# Altium footprint library diodes.PcbLib: 33 footprints (part 3 of 3)
Each footprint in its own frame and in the unit in brackets; x right, y up, seen from the top. Pads: shape width x height; smd on the part's side, far side on the other; paste and mask are expansions set on the pad; w line width, h text height; cw(c..) or ccw(c..) is an arc to the next point about the centre after c.
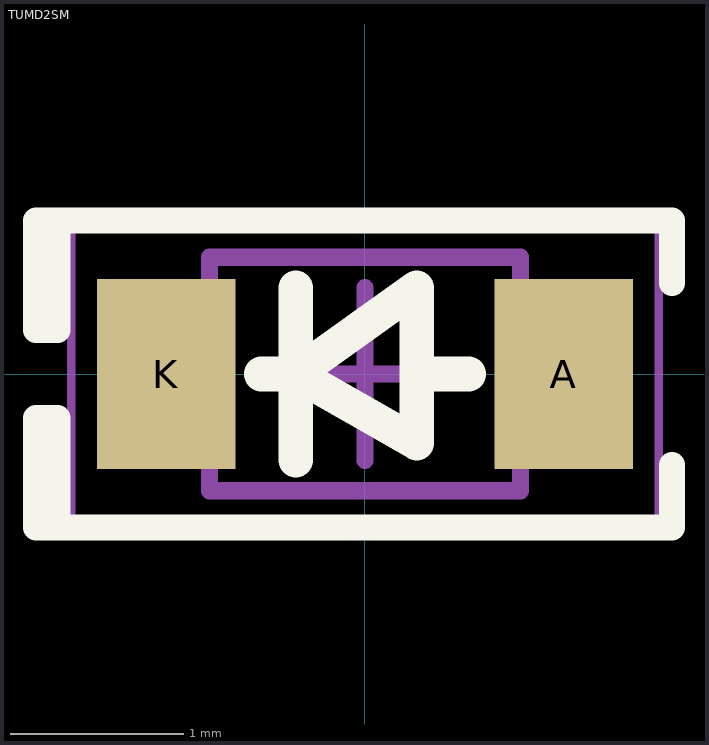
[diagram p2: the footprint, top view; thin cyan lines are the x and y axes]

## TUMD2SM [mm]
pads (2):
  rect 0.8x1.1 smd: A(1.15,0) K(-1.15,0)
Top Overlay:
  lines w0.15: -1.778,-0.889 -1.778,-0.254 -1.905,-0.254 -1.905,-0.889 1.778,-0.889 1.778,-0.525 ; -1.778,0.889 -1.778,0.254 -1.905,0.254 -1.905,0.889 1.778,0.889 1.778,0.525
  lines w0.2: -0.6,0 -0.4,0 ; -0.4,-0.5 -0.4,0.5 ; 0.3,0 0.6,0 ; -0.4,0 0.3,-0.4 0.3,0.5 -0.4,0
Mechanical 13:
  lines w0.1: -0.9,-0.675 -0.9,0.675 0.9,0.675 0.9,-0.675 -0.9,-0.675
Mechanical 15:
  lines w0.05: -1.7,-0.85 -1.7,0.85 1.7,0.85 1.7,-0.85 -1.7,-0.85
  lines w0.1: -0.5,0 0.5,0 ; 0,-0.5 0,0.5
3D body "SOD323F.STEP": height 0.8, standoff 0, extent -1.25,-0.625 1.25,0.625